# Altium schematic symbol library ALS-PT19-315C_L177_TR8.SchLib: 1 symbol
Pins are listed as number, name and electrical type; pins without a type are passive.

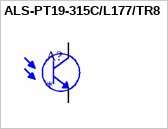
[diagram p0: symbol ALS-PT19-315C/L177/TR8]

## ALS-PT19-315C/L177/TR8
designator A?
Phototransistors 630nm 2-SMD, No Lead; MP: ALS-PT19-315C/L177/TR8; MF: Everlight; Availability: Good; Check_prices: https://www.snapeda.com/parts/ALS-PT19-315C/L177/TR8/Everlight%20Electronics%20Co%20Ltd/view-part/226235/?ref=eda; SnapEDA_Link: https://www.snapeda.com/parts/ALS-PT19-315C/L177/TR8/Everlight%20Electronics%20Co%20Ltd/view-part/226235/?ref=snap; Price: None; Purchase-URL: https://pricing.snapeda.com/search/part/ALS-PT19-315C/L177/TR8/?ref=eda; Package: None; Value: *
footprint XDCR_ALS-PT19-315C/L177/TR8
pins: 1 C, 2 E